# EAGLE library part DRV8837 (library CougsInSpace)
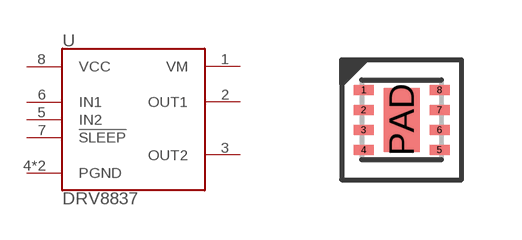
[diagram p17: symbol with the pads of SON8-2.0X2.0MM; footprint SON8-2.0X2.0MM]

Designator prefix U

## DRV8837  [SON8-2.0X2.0MM]
1  VM  pwr
2  OUT1  out
3  OUT2  out
4  PGND  pwr
5  IN2  in
6  IN1  in
7  !SLEEP  in
8  VCC  pwr
PAD  PGND  pwr

## Footprint SON8-2.0X2.0MM (pad centres in mm)
smd 0.5 x 0.25: 1 -0.95,0.75; 2 -0.95,0.25; 3 -0.95,-0.25; 4 -0.95,-0.75; 5 0.95,-0.75; 6 0.95,-0.25; 7 0.95,0.25; 8 0.95,0.75
smd 0.9 x 1.6: PAD 0,0